# EAGLE library part INA28X (library FA3D_lib)
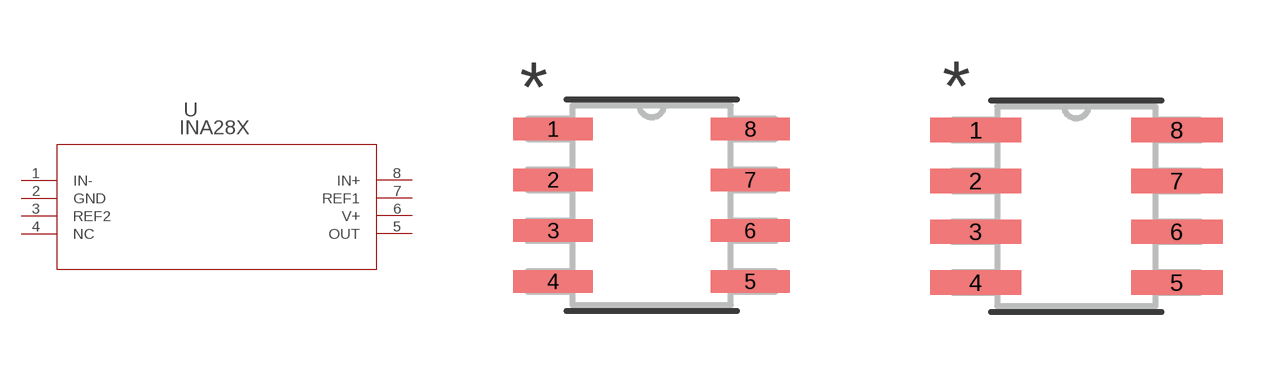
[diagram p16: symbol with the pads of D8; footprints D8, D8-M]

Designator prefix U

## INA28X (MANUFACTURER_PART_NUMBER: INA282AIDR; VENDOR: Texas Instruments)  [D8]
1  IN-  in
2  GND  pwr
3  REF2  pas
4  NC  pas
5  OUT  out
6  V+  pwr
7  REF1  pas
8  IN+  in

## INA28XD8-M (MANUFACTURER_PART_NUMBER: INA282AIDR; VENDOR: Texas Instruments)  [D8-M]
Pads as for D8

## INA28XD8-L (MANUFACTURER_PART_NUMBER: INA282AIDR; VENDOR: Texas Instruments)  [D8-L]
Pads as for D8

## INA28XSMALL  [8-VSSOP]
P$1  IN-  in
P$2  GND  pwr
P$3  REF2  pas
P$4  NC  pas
P$5  OUT  out
P$6  V+  pwr
P$7  REF1  pas
P$8  IN+  in

## Footprint D8 (pad centres in mm)
smd 1.981 x 0.559: 1 -2.464,1.905; 2 -2.464,0.635; 3 -2.464,-0.635; 4 -2.464,-1.905; 5 2.464,-1.905; 6 2.464,-0.635; 7 2.464,0.635; 8 2.464,1.905

## Footprint D8-M (pad centres in mm)
smd 2.286 x 0.61: 1 -2.515,1.905; 2 -2.515,0.635; 3 -2.515,-0.635; 4 -2.515,-1.905; 5 2.515,-1.905; 6 2.515,-0.635; 7 2.515,0.635; 8 2.515,1.905

## Footprint D8-L (pad centres in mm)
smd 1.676 x 0.508: 1 -2.413,1.905; 2 -2.413,0.635; 3 -2.413,-0.635; 4 -2.413,-1.905; 5 2.413,-1.905; 6 2.413,-0.635; 7 2.413,0.635; 8 2.413,1.905

## Footprint 8-VSSOP (pad centres in mm)
smd 0.45 x 1.45: P$1 -0.975,-2.2; P$2 -0.325,-2.2; P$3 0.325,-2.2; P$4 0.975,-2.2; P$5 0.975,2.2; P$6 0.325,2.2; P$7 -0.325,2.2; P$8 -0.975,2.2